# Altium schematic symbol library AT91RM9200_QFP208.SchLib: 1 symbol
Pins are listed as number, name and electrical type; pins without a type are passive.

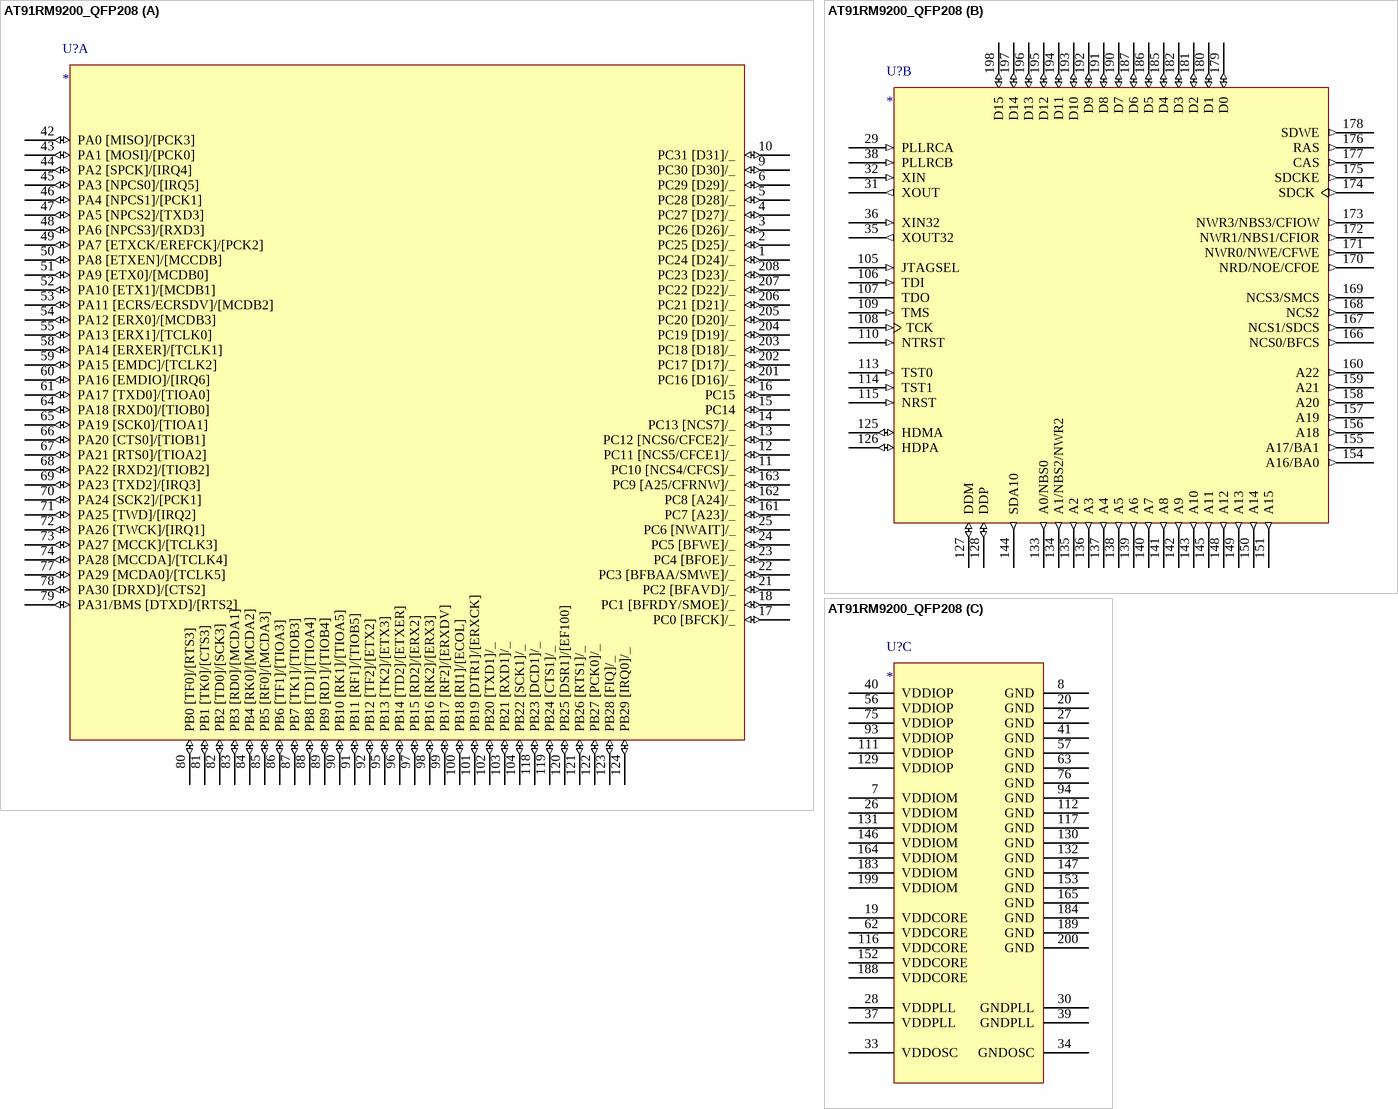
[diagram p0: symbol AT91RM9200_QFP208]

## AT91RM9200_QFP208
designator U?
part A pins: 1 PC24 [D24]/_ (io), 2 PC25 [D25]/_ (io), 3 PC26 [D26]/_ (io), 4 PC27 [D27]/_ (io), 5 PC28 [D28]/_ (io), 6 PC29 [D29]/_ (io), 9 PC30 [D30]/_ (io), 10 PC31 [D31]/_ (io), 11 PC10 [NCS4/CFCS]/_ (io), 12 PC11 [NCS5/CFCE1]/_ (io), 13 PC12 [NCS6/CFCE2]/_ (io), 14 PC13 [NCS7]/_ (io), 15 PC14 (io), 16 PC15 (io), 17 PC0 [BFCK]/_ (io), 18 PC1 [BFRDY/SMOE]/_ (io), 21 PC2 [BFAVD]/_ (io), 22 PC3 [BFBAA/SMWE]/_ (io), 23 PC4 [BFOE]/_ (io), 24 PC5 [BFWE]/_ (io), 25 PC6 [NWAIT]/_ (io), 42 PA0 [MISO]/[PCK3] (io), 43 PA1 [MOSI]/[PCK0] (io), 44 PA2 [SPCK]/[IRQ4] (io), 45 PA3 [NPCS0]/[IRQ5] (io), 46 PA4 [NPCS1]/[PCK1] (io), 47 PA5 [NPCS2]/[TXD3] (io), 48 PA6 [NPCS3]/[RXD3] (io), 49 PA7 [ETXCK/EREFCK]/[PCK2] (io), 50 PA8 [ETXEN]/[MCCDB] (io), 51 PA9 [ETX0]/[MCDB0] (io), 52 PA10 [ETX1]/[MCDB1] (io), 53 PA11 [ECRS/ECRSDV]/[MCDB2] (io), 54 PA12 [ERX0]/[MCDB3] (io), 55 PA13 [ERX1]/[TCLK0] (io), 58 PA14 [ERXER]/[TCLK1] (io), 59 PA15 [EMDC]/[TCLK2] (io), 60 PA16 [EMDIO]/[IRQ6] (io), 61 PA17 [TXD0]/[TIOA0] (io), 64 PA18 [RXD0]/[TIOB0] (io), 65 PA19 [SCK0]/[TIOA1] (io), 66 PA20 [CTS0]/[TIOB1] (io), 67 PA21 [RTS0]/[TIOA2] (io), 68 PA22 [RXD2]/[TIOB2] (io), 69 PA23 [TXD2]/[IRQ3] (io), 70 PA24 [SCK2]/[PCK1] (io), 71 PA25 [TWD]/[IRQ2] (io), 72 PA26 [TWCK]/[IRQ1] (io), 73 PA27 [MCCK]/[TCLK3] (io), 74 PA28 [MCCDA]/[TCLK4] (io), 77 PA29 [MCDA0]/[TCLK5] (io), 78 PA30 [DRXD]/[CTS2] (io), 79 PA31/BMS [DTXD]/[RTS2] (io), 80 PB0 [TF0]/[RTS3] (io), 81 PB1 [TK0]/[CTS3] (io), 82 PB2 [TD0]/[SCK3] (io), 83 PB3 [RD0]/[MCDA1] (io), 84 PB4 [RK0]/[MCDA2] (io), 85 PB5 [RF0]/[MCDA3] (io), 86 PB6 [TF1]/[TIOA3] (io), 87 PB7 [TK1]/[TIOB3] (io), 88 PB8 [TD1]/[TIOA4] (io), 89 PB9 [RD1]/[TIOB4] (io), 90 PB10 [RK1]/[TIOA5] (io), 91 PB11 [RF1]/[TIOB5] (io), 92 PB12 [TF2]/[ETX2] (io), 95 PB13 [TK2]/[ETX3] (io), 96 PB14 [TD2]/[ETXER] (io), 97 PB15 [RD2]/[ERX2] (io), 98 PB16 [RK2]/[ERX3] (io), 99 PB17 [RF2]/[ERXDV] (io), 100 PB18 [RI1]/[ECOL] (io), 101 PB19 [DTR1]/[ERXCK] (io), 102 PB20 [TXD1]/_ (io), 103 PB21 [RXD1]/_ (io), 104 PB22 [SCK1]/_ (io), 118 PB23 [DCD1]/_ (io), 119 PB24 [CTS1]/_ (io), 120 PB25 [DSR1]/[EF100] (io), 121 PB26 [RTS1]/_ (io), 122 PB27 [PCK0]/_ (io), 123 PB28 [FIQ]/_ (io), 124 PB29 [IRQ0]/_ (io), 161 PC7 [A23]/_ (io), 162 PC8 [A24]/_ (io), 163 PC9 [A25/CFRNW]/_ (io), 201 PC16 [D16]/_ (io), 202 PC17 [D17]/_ (io), 203 PC18 [D18]/_ (io), 204 PC19 [D19]/_ (io), 205 PC20 [D20]/_ (io), 206 PC21 [D21]/_ (io), 207 PC22 [D22]/_ (io), 208 PC23 [D23]/_ (io)
part B pins: 29 PLLRCA (in), 31 XOUT (out), 32 XIN (in), 35 XOUT32 (out), 36 XIN32 (in), 38 PLLRCB (in), 105 JTAGSEL (in), 106 TDI (in), 107 TDO (hiz), 108 TCK (in), 109 TMS (in), 110 NTRST (in), 113 TST0 (in), 114 TST1 (in), 115 NRST (in), 125 HDMA (io), 126 HDPA (io), 127 DDM (io), 128 DDP (io), 133 A0/NBS0 (out), 134 A1/NBS2/NWR2 (out), 135 A2 (out), 136 A3 (out), 137 A4 (out), 138 A5 (out), 139 A6 (out), 140 A7 (out), 141 A8 (out), 142 A9 (out), 143 A10 (out), 144 SDA10 (out), 145 A11 (out), 148 A12 (out), 149 A13 (out), 150 A14 (out), 151 A15 (out), 154 A16/BA0 (out), 155 A17/BA1 (out), 156 A18 (out), 157 A19 (out), 158 A20 (out), 159 A21 (out), 160 A22 (out), 166 NCS0/BFCS (out), 167 NCS1/SDCS (out), 168 NCS2 (out), 169 NCS3/SMCS (out), 170 NRD/NOE/CFOE (out), 171 NWR0/NWE/CFWE (out), 172 NWR1/NBS1/CFIOR (out), 173 NWR3/NBS3/CFIOW (out), 174 SDCK (out), 175 SDCKE (out), 176 RAS (out), 177 CAS (out), 178 SDWE (out), 179 D0 (io), 180 D1 (io), 181 D2 (io), 182 D3 (io), 185 D4 (io), 186 D5 (io), 187 D6 (io), 190 D7 (io), 191 D8 (io), 192 D9 (io), 193 D10 (io), 194 D11 (io), 195 D12 (io), 196 D13 (io), 197 D14 (io), 198 D15 (io)
part C pins: 7 VDDIOM (power), 8 GND (power), 19 VDDCORE (power), 20 GND (power), 26 VDDIOM (power), 27 GND (power), 28 VDDPLL (power), 30 GNDPLL (power), 33 VDDOSC (power), 34 GNDOSC (power), 37 VDDPLL (power), 39 GNDPLL (power), 40 VDDIOP (power), 41 GND (power), 56 VDDIOP (power), 57 GND (power), 62 VDDCORE (power), 63 GND (power), 75 VDDIOP (power), 76 GND (power), 93 VDDIOP (power), 94 GND (power), 111 VDDIOP (power), 112 GND (power), 116 VDDCORE (power), 117 GND (power), 129 VDDIOP (power), 130 GND (power), 131 VDDIOM (power), 132 GND (power), 146 VDDIOM (power), 147 GND (power), 152 VDDCORE (power), 153 GND (power), 164 VDDIOM (power), 165 GND (power), 183 VDDIOM (power), 184 GND (power), 188 VDDCORE (power), 189 GND (power), 199 VDDIOM (power), 200 GND (power)